# EAGLE library part ST1S03 (library Regulator)
The ST1S03 is a step-down DC-DC converter optimized for powering a low voltage digital core in HDD applications and, generally, to replace the high current linear solution when the power dissipation may cause a high heating of the application environment. It provides up to 1.5 A over an input voltage range of 3 V to 16 V. A high switching frequency (1.5 MHz) allows the use of tiny surface-mount components: as well as the resistor divider to set the output voltage value, only an inductor, a Schottky diode and two capacitors are required. Besides, a low output ripple is guaranteed by the current mode PWM topology and by the use of low ESR SMD ceramic capacitors. The device is thermal protected and current limited to prevent damages due to an accidental short-circuit. The ST1S03 device is available in a DFN6D package
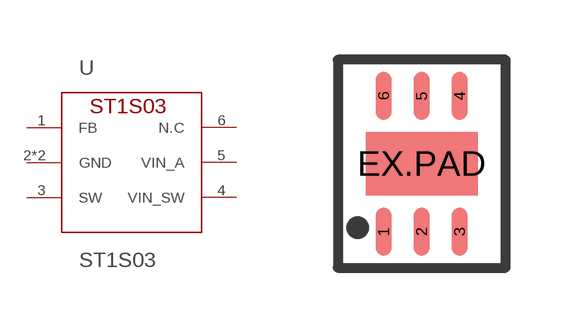
[diagram p4: symbol with the pads of DFN-6(3X3); footprint DFN-6(3X3)]

Designator prefix U

## ST1S03PUR  [DFN-6(3X3)]
1  FB  in
2  GND  pwr
3  SW  in
4  VIN_SW  pwr
5  VIN_A  pwr
6  N.C  nc
EX.PAD  GND  pwr

## Footprint DFN-6(3X3) (pad centres in mm)
smd 0.4 x 1.2: 1 -0.95,-1.7; 2 0,-1.7; 3 0.95,-1.7; 4 0.95,1.7; 5 0,1.7; 6 -0.95,1.7
smd 2.8 x 1.6: EX.PAD 0,0